# Altium footprint library CAPC4532X185N.PcbLib: 1 footprints
Each footprint in its own frame and in the unit in brackets; x right, y up, seen from the top. Pads: shape width x height; smd on the part's side, far side on the other; paste and mask are expansions set on the pad; w line width, h text height; cw(c..) or ccw(c..) is an arc to the next point about the centre after c.
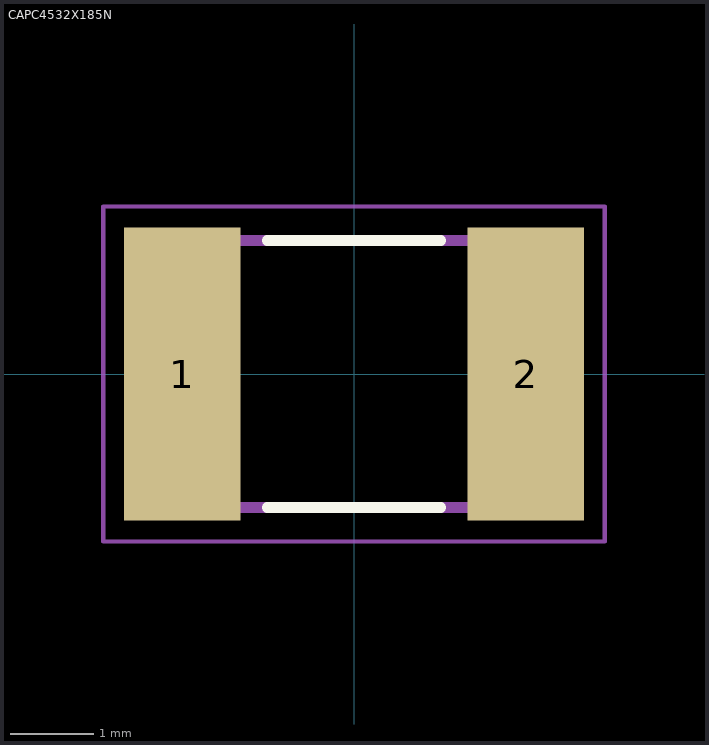
[diagram p0: the footprint, top view; thin cyan lines are the x and y axes]

## CAPC4532X185N [mm]
pads (2):
  rect 1.4x3.51 smd: 1(-2.057,0) 2(2.057,0)
Top Overlay:
  lines w0.127: -1.04,-1.6 1.04,-1.6 ; -1.04,1.6 1.04,1.6
Assembly Top:
  lines w0.127: -2.25,-1.6 -2.25,1.6 2.25,1.6 2.25,-1.6 -2.25,-1.6
Courtyard Top:
  lines w0.05: -3.005,-2.005 -3.005,2.005 3.005,2.005 3.005,-2.005 -3.005,-2.005
3D body "step_temp.STEP": height 1.85, standoff 0, extent -2.25,-1.6 2.25,1.6